# EAGLE library part 8P8C (library modular-jack)
8P8C (RJ-45) modular jack connector
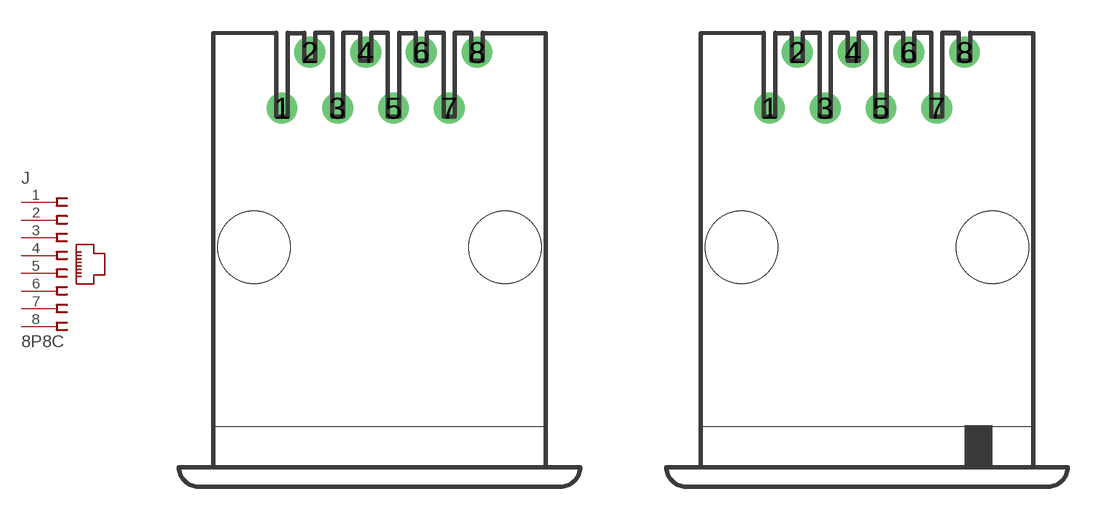
[diagram p0: symbol with the pads of 520243-4; footprints 520243-4, 520244-4]

Designator prefix J

## 8P8C-F  [520243-4]
1  1  pas
2  2  pas
3  3  pas
4  4  pas
5  5  pas
6  6  pas
7  7  pas
8  8  pas

## 8P8C-FK  [520244-4]
Pads as for 520243-4

## 8P8C-PS  [520251-4]
Pads as for 520243-4

## 8P8C-PSK  [520252-4]
Pads as for 520243-4

## 8P8C-VPS  [520259-4]
Pads as for 520243-4

## 8P8C-VPSK  [520260-4]
Pads as for 520243-4

## 8P8C  [520426-4]
Pads as for 520243-4

## 8P8C-K  [554517-1]
Pads as for 520243-4

## Footprint 520243-4 (pad centres in mm)
Modular Jack with Flanged
drill 0.9 round: 1 -4.445,7.62; 2 -3.175,10.16; 3 -1.905,7.62; 4 -0.635,10.16; 5 0.635,7.62; 6 1.905,10.16; 7 3.175,7.62; 8 4.445,10.16
hole 3.3 at -5.715,1.27
hole 3.3 at 5.715,1.27

## Footprint 520244-4 (pad centres in mm)
Modular Jack Keyed with Flanged
drill 0.9 round: 1 -4.445,7.62; 2 -3.175,10.16; 3 -1.905,7.62; 4 -0.635,10.16; 5 0.635,7.62; 6 1.905,10.16; 7 3.175,7.62; 8 4.445,10.16
hole 3.3 at -5.715,1.27
hole 3.3 at 5.715,1.27

## Footprint 520251-4 (pad centres in mm)
Modular Jack with Panel Stops
drill 0.9 round: 1 -4.445,7.62; 2 -3.175,10.16; 3 -1.905,7.62; 4 -0.635,10.16; 5 0.635,7.62; 6 1.905,10.16; 7 3.175,7.62; 8 4.445,10.16
hole 3.3 at -5.715,1.27
hole 3.3 at 5.715,1.27

## Footprint 520252-4 (pad centres in mm)
Modular Jack Keyed with Panel Stops
drill 0.9 round: 1 -4.445,7.62; 2 -3.175,10.16; 3 -1.905,7.62; 4 -0.635,10.16; 5 0.635,7.62; 6 1.905,10.16; 7 3.175,7.62; 8 4.445,10.16
hole 3.3 at -5.715,1.27
hole 3.3 at 5.715,1.27

## Footprint 520259-4 (pad centres in mm)
Modular Jack with Panel Stops
drill 0.9 round: 1 -4.445,5.461; 2 -3.175,8.001; 3 -1.905,5.461; 4 -0.635,8.001; 5 0.635,5.461; 6 1.905,8.001; 7 3.175,5.461; 8 4.445,8.001
hole 3.3 at -5.715,-0.889
hole 3.3 at 5.715,-0.889

## Footprint 520260-4 (pad centres in mm)
Modular Jack Keyed with Panel Stops
drill 0.9 round: 1 -4.445,5.461; 2 -3.175,8.001; 3 -1.905,5.461; 4 -0.635,8.001; 5 0.635,5.461; 6 1.905,8.001; 7 3.175,5.461; 8 4.445,8.001
hole 3.3 at -5.715,-0.889
hole 3.3 at 5.715,-0.889

## Footprint 520426-4 (pad centres in mm)
Modular Jack without Panel Stops
drill 0.9 round: 1 -4.445,7.62; 2 -3.175,10.16; 3 -1.905,7.62; 4 -0.635,10.16; 5 0.635,7.62; 6 1.905,10.16; 7 3.175,7.62; 8 4.445,10.16
hole 3.3 at -5.715,1.27
hole 3.3 at 5.715,1.27

## Footprint 554517-1 (pad centres in mm)
Modular Jack Keyed without Panel Stops
drill 0.9 round: 1 -4.445,7.62; 2 -3.175,10.16; 3 -1.905,7.62; 4 -0.635,10.16; 5 0.635,7.62; 6 1.905,10.16; 7 3.175,7.62; 8 4.445,10.16
hole 3.3 at -5.715,1.27
hole 3.3 at 5.715,1.27